# Altium schematic symbol library GANSYS_ALTIUM_SYMBOL_Updated_20190802.SchLib: 14 symbols
Pins are listed as number, name and electrical type; pins without a type are passive.

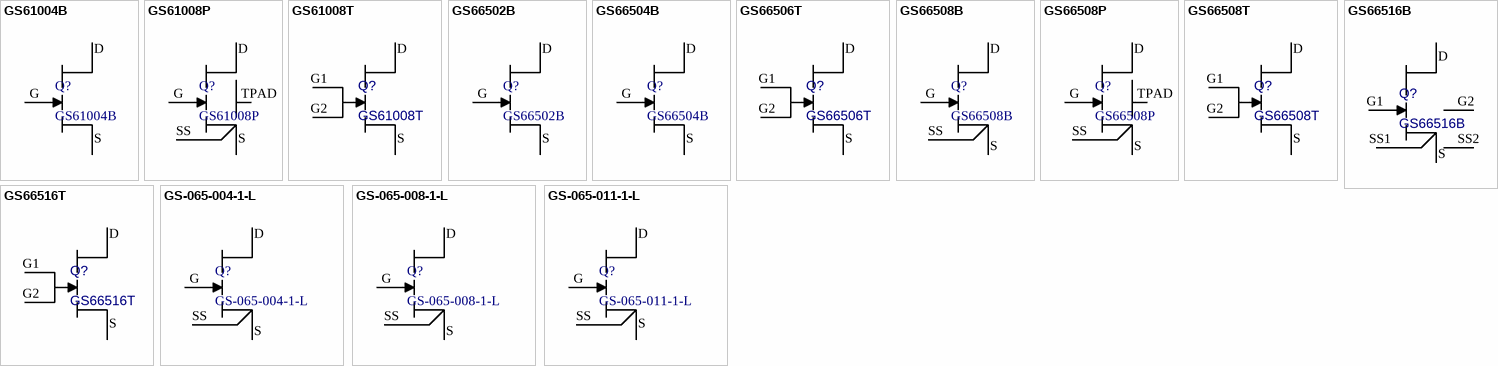
[diagram p0: symbols GS61004B to GS-065-011-1-L]

## GS61004B
designator Q?
GAN TRANS E-MODE 100V
footprint GS61004B (GAN TRANS E-MODE 100V 45A)
pins: D, G, S

## GS61008P
designator Q?
GAN TRANS E-MODE 100V 90A
footprint GS61008P (GAN TRANS E-MODE 100V 90A)
pins: D, G, S, SS, TPAD

## GS61008T
designator Q?
GAN TRANS E-MODE 100V 90A TOP SIDE COOL
footprint GS61008T (GAN TRANS EMODE 100V 90A TOP SIDE COOLED)
pins: D, G1, G2, S

## GS66502B
designator Q?
GAN TRANS E-MODE 650V
footprint GS66502B (GAN TRANS E-MODE 650V)
pins: D, G, S

## GS66504B
designator Q?
GAN TRANS E-MODE 650V
footprint GS66504B (GAN TRANS E-MODE 650V)
pins: D, G, S

## GS66506T
designator Q?
GAN TRANS E-MODE 650V TOP SIDE COOL
footprint GS66506T (GAN TRANS EMODE 650V 23A TOP SIDE COOL)
pins: D, G1, G2, S

## GS66508B
designator Q?
GAN TRANS E-MODE 650V 30A
footprint GS66508B (GAN TRANS E-MODE 650V 30A)
pins: D, G, S, SS

## GS66508P
designator Q?
GAN TRANS E-MODE 650V 30A
footprint GS66508P (GAN TRANS E-MODE 650V 34A)
pins: D, G, S, SS, TPAD

## GS66508T
designator Q?
GAN TRANS E-MODE 650V 30A TOP SIDE COOL
footprint GS66508T (GAN TRANS EMODE 650V 30A TOP SIDE COOL)
pins: D, G1, G2, S

## GS66516B
designator Q?
GAN TRANS E-MODE 650V 60A BOT SIDE COOL; value: GS66516B; VDS: 650V; ID: 60A
pins: D, G1, G2, S, SS1, SS2

## GS66516T
designator Q?
GAN TRANS E-MODE 650V 60A TOP SIDE COOL
footprint GS66516T (GAN TRANS EMODE 650V 30/60A UNIV. FOOTPRINT)
pins: D, G1, G2, S

## GS-065-004-1-L
designator Q?
GAN TRANS E-MODE 650V 3.5A
footprint GS-065-004-1-L (GAN TRANS E-MODE 650V 3.5A)
pins: D, G, S, SS

## GS-065-008-1-L
designator Q?
GAN TRANS E-MODE 650V 8A
footprint GS-065-008-1-L (GAN TRANS E-MODE 650V 8A)
pins: D, G, S, SS

## GS-065-011-1-L
designator Q?
GAN TRANS E-MODE 650V 11A
footprint GS-065-011-1-L (GAN TRANS E-MODE 650V 11A)
pins: D, G, S, SS